# Altium footprint library HopeRF.PcbLib: 1 footprints
Each footprint in its own frame and in the unit in brackets; x right, y up, seen from the top. Pads: shape width x height; smd on the part's side, far side on the other; paste and mask are expansions set on the pad; w line width, h text height; cw(c..) or ccw(c..) is an arc to the next point about the centre after c.
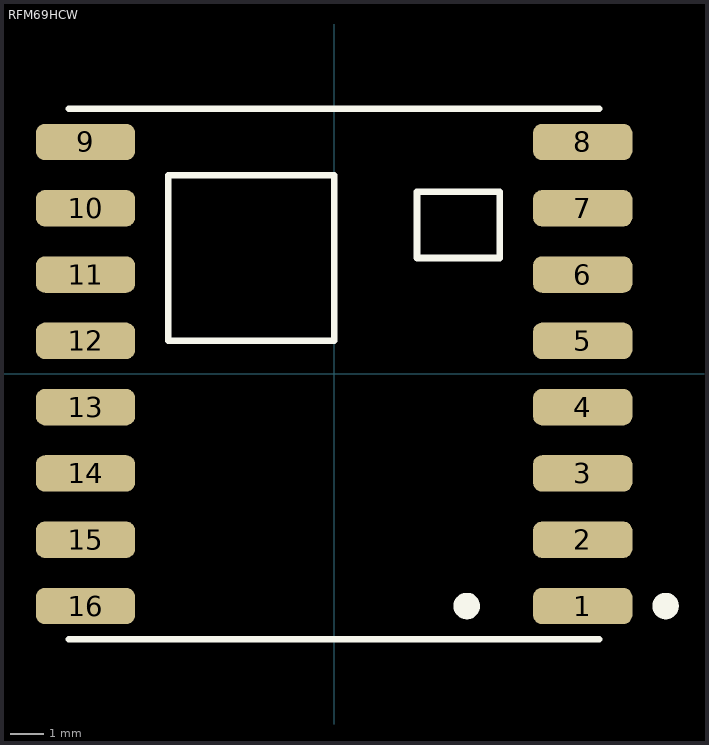
[diagram p0: the footprint, top view; thin cyan lines are the x and y axes]

## RFM69HCW [mm]
height 1.8
pads (16):
  rrect50% 3x1.1 smd: 1(7.5,-7) 2(7.5,-5) 3(7.5,-3) 4(7.5,-1) 5(7.5,1) 6(7.5,3) 7(7.5,5) 8(7.5,7) 9(-7.5,7) 10(-7.5,5) 11(-7.5,3) 12(-7.5,1) 13(-7.5,-1) 14(-7.5,-3) 15(-7.5,-5) 16(-7.5,-7)
Top Overlay:
  circle w0.4: c4,-7 r0.2
  circle w0.4: c10,-7 r0.2
  lines w0.2: -8,-8 8,-8 ; -8,8 8,8 ; -5,1 -5,6 0,6 0,1 -5,1 ; 2.5,3.5 2.5,5.5 5,5.5 5,3.5 2.5,3.5
3D body: height 1.8, standoff 0, extent -8,-8 8,8